# Altium footprint library WCAP-CSGP.PcbLib: 25 footprints (part 2 of 2)
Each footprint in its own frame and in the unit in brackets; x right, y up, seen from the top. Pads: shape width x height; smd on the part's side, far side on the other; paste and mask are expansions set on the pad; w line width, h text height; cw(c..) or ccw(c..) is an arc to the next point about the centre after c.
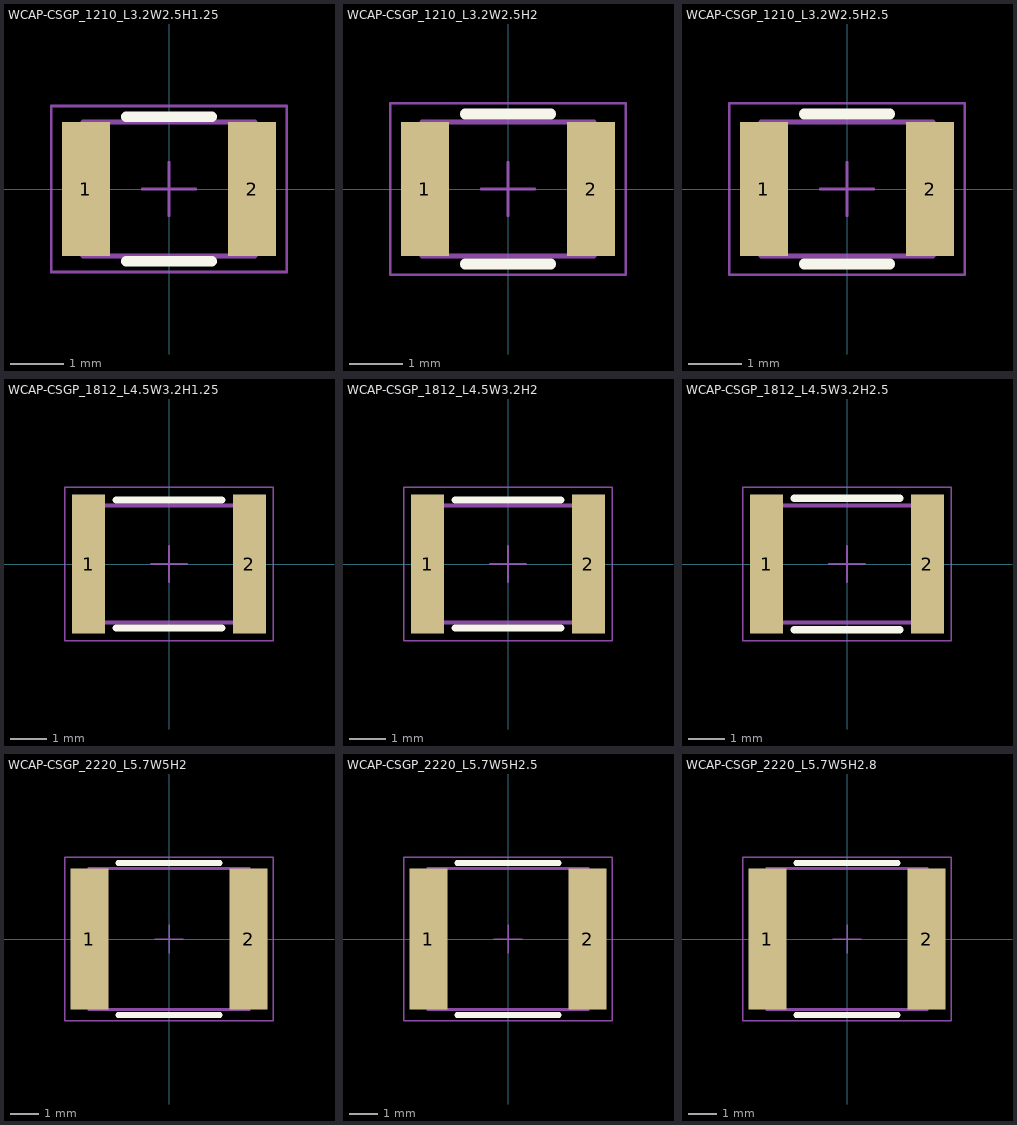
[diagram p1: the footprints below, top view; thin cyan lines are the x and y axes]

## WCAP-CSGP_1210_L3.2W2.5H1.25 [mm] "Ceramic Capacitors, body 3.2x2.5mm"
height 1.35
pads (2):
  rect 0.9x2.5 smd: 1(-1.55,0) 2(1.55,0)
Top Overlay:
  lines w0.2: -0.8,-1.35 0.8,-1.35 ; -0.8,1.35 0.8,1.35
Top Designator:
  text ".Designator" at -5.998,-0.4 h1.2
Top Component Outline:
  lines w0.1: -1.6,-1.25 1.6,-1.25 1.6,1.25 -1.6,1.25 -1.6,-1.25
Top Courtyard:
  lines w0.05: -2.2,-1.55 2.2,-1.55 2.2,1.55 -2.2,1.55 -2.2,-1.55
Top Component Center:
  lines w0.05: -0.5,0 0.5,0 ; 0,-0.5 0,0.5
3D body "CAPC3225X12N.step": height 1.25, standoff 0, extent -1.6,-1.25 1.6,1.25

## WCAP-CSGP_1210_L3.2W2.5H2 [mm] "Ceramic Capacitors, body 3.2x2.5mm"
height 2.2
pads (2):
  rect 0.9x2.5 smd: 1(-1.55,0) 2(1.55,0)
Top Overlay:
  lines w0.2: -0.8,-1.4 0.8,-1.4 ; -0.8,1.4 0.8,1.4
Top Designator:
  text ".Designator" at -5.998,-0.4 h1.2
Top Component Outline:
  lines w0.1: -1.6,-1.25 -1.6,1.25 1.6,1.25 1.6,-1.25 -1.6,-1.25
Top Courtyard:
  lines w0.05: -2.2,-1.6 -2.2,1.6 2.2,1.6 2.2,-1.6 -2.2,-1.6
Top Component Center:
  lines w0.05: -0.5,0 0.5,0 ; 0,-0.5 0,0.5
3D body "CAPC3225X20N.step": height 2, standoff 0, extent -1.6,-1.25 1.6,1.25

## WCAP-CSGP_1210_L3.2W2.5H2.5 [mm] "Ceramic Capacitors, body 3.2x2.5mm"
height 2.8
pads (2):
  rect 0.9x2.5 smd: 1(-1.55,0) 2(1.55,0)
Top Overlay:
  lines w0.2: -0.8,-1.4 0.8,-1.4 ; -0.8,1.4 0.8,1.4
Top Designator:
  text ".Designator" at -5.998,-0.4 h1.2
Top Component Outline:
  lines w0.1: -1.6,-1.25 1.6,-1.25 1.6,1.25 -1.6,1.25 -1.6,-1.25
Top Courtyard:
  lines w0.05: -2.2,-1.6 2.2,-1.6 2.2,1.6 -2.2,1.6 -2.2,-1.6
Top Component Center:
  lines w0.05: -0.5,0 0.5,0 ; 0,-0.5 0,0.5
3D body "CAPC3225X25N.step": height 2.5, standoff 0, extent -1.6,-1.25 1.6,1.25

## WCAP-CSGP_1812_L4.5W3.2H1.25 [mm] "Ceramic Capacitors, body 4.5x3.2mm"
height 1.35
pads (2):
  rect 0.9x3.8 smd: 1(-2.2,0) 2(2.2,0)
Top Overlay:
  lines w0.2: -1.45,-1.75 1.45,-1.75 ; -1.45,1.75 1.45,1.75
Top Designator:
  text ".Designator" at -7.498,-0.5 h1.5
Top Component Outline:
  lines w0.1: -2.25,-1.6 2.25,-1.6 2.25,1.6 -2.25,1.6 -2.25,-1.6
Top Courtyard:
  lines w0.05: -2.85,-2.1 2.85,-2.1 2.85,2.1 -2.85,2.1 -2.85,-2.1
Top Component Center:
  lines w0.05: -0.5,0 0.5,0 ; 0,-0.5 0,0.5
3D body "CAPC4532X12N.step": height 1.25, standoff 0, extent -2.25,-1.6 2.25,1.6

## WCAP-CSGP_1812_L4.5W3.2H2 [mm] "Ceramic Capacitors, body 4.5x3.2mm"
height 2.2
pads (2):
  rect 0.9x3.8 smd: 1(-2.2,0) 2(2.2,0)
Top Overlay:
  lines w0.2: -1.45,-1.75 1.45,-1.75 ; -1.45,1.75 1.45,1.75
Top Designator:
  text ".Designator" at -7.498,-0.5 h1.5
Top Component Outline:
  lines w0.1: -2.25,-1.6 2.25,-1.6 2.25,1.6 -2.25,1.6 -2.25,-1.6
Top Courtyard:
  lines w0.05: -2.85,-2.1 2.85,-2.1 2.85,2.1 -2.85,2.1 -2.85,-2.1
Top Component Center:
  lines w0.05: -0.5,0 0.5,0 ; 0,-0.5 0,0.5
3D body "CAPC4532X20N.step": height 2, standoff 0, extent -2.25,-1.6 2.25,1.6

## WCAP-CSGP_1812_L4.5W3.2H2.5 [mm] "Ceramic Capacitors, body 4.5x3.2mm"
height 2.8
pads (2):
  rect 0.9x3.8 smd: 1(-2.2,0) 2(2.2,0)
Top Overlay:
  lines w0.2: -1.45,-1.8 1.45,-1.8 ; -1.45,1.8 1.45,1.8
Top Designator:
  text ".Designator" at -7.498,-0.5 h1.5
Top Component Outline:
  lines w0.1: -2.25,-1.6 2.25,-1.6 2.25,1.6 -2.25,1.6 -2.25,-1.6
Top Courtyard:
  lines w0.05: -2.85,-2.1 2.85,-2.1 2.85,2.1 -2.85,2.1 -2.85,-2.1
Top Component Center:
  lines w0.05: -0.5,0 0.5,0 ; 0,-0.5 0,0.5
3D body "CAPC4532X25N.step": height 2.5, standoff 0, extent -2.25,-1.6 2.25,1.6

## WCAP-CSGP_2220_L5.7W5H2 [mm] "Ceramic Capacitors, body 5.70x5.00mm"
height 2
pads (2):
  rect 1.35x5 smd: 1(-2.825,0) 2(2.825,0)
Top Overlay:
  lines w0.2: -1.8,-2.7 1.8,-2.7 ; -1.8,2.7 1.8,2.7
Top Designator:
  text ".Designator" at -7.498,-0.5 h1.5
Top Component Outline:
  lines w0.1: -2.85,-2.5 2.85,-2.5 2.85,2.5 -2.85,2.5 -2.85,-2.5
Top Courtyard:
  lines w0.05: -3.7,-2.9 3.7,-2.9 3.7,2.9 -3.7,2.9 -3.7,-2.9
Top Component Center:
  lines w0.05: -0.5,0 0.5,0 ; 0,-0.5 0,0.5
3D body "CAPC5750X20N.step": height 2, standoff 0, extent -2.85,-2.5 2.85,2.5

## WCAP-CSGP_2220_L5.7W5H2.5 [mm] "Ceramic Capacitors, body 5.70x5.00mm"
height 2.5
pads (2):
  rect 1.35x5 smd: 1(-2.825,0) 2(2.825,0)
Top Overlay:
  lines w0.2: -1.8,-2.7 1.8,-2.7 ; -1.8,2.7 1.8,2.7
Top Designator:
  text ".Designator" at -7.498,-0.5 h1.5
Top Component Outline:
  lines w0.1: -2.85,-2.5 -2.85,2.5 2.85,2.5 2.85,-2.5 -2.85,-2.5
Top Courtyard:
  lines w0.05: -3.7,-2.9 -3.7,2.9 3.7,2.9 3.7,-2.9 -3.7,-2.9
Top Component Center:
  lines w0.05: -0.5,0 0.5,0 ; 0,-0.5 0,0.5
3D body "CAPC5750X25N.step": height 2.5, standoff 0, extent -2.85,-2.5 2.85,2.5

## WCAP-CSGP_2220_L5.7W5H2.8 [mm] "Ceramic Capacitors, body 5.70x5.00mm"
height 2.8
pads (2):
  rect 1.35x5 smd: 1(-2.825,0) 2(2.825,0)
Top Overlay:
  lines w0.2: -1.8,-2.7 1.8,-2.7 ; -1.8,2.7 1.8,2.7
Top Designator:
  text ".Designator" at -7.498,-0.5 h1.5
Top Component Outline:
  lines w0.1: -2.85,-2.5 2.85,-2.5 2.85,2.5 -2.85,2.5 -2.85,-2.5
Top Courtyard:
  lines w0.05: -3.7,-2.9 3.7,-2.9 3.7,2.9 -3.7,2.9 -3.7,-2.9
Top Component Center:
  lines w0.05: -0.5,0 0.5,0 ; 0,-0.5 0,0.5
3D body "CAPC5750X28N.step": height 2.8, standoff 0, extent -2.85,-2.5 2.85,2.5